# EAGLE library part MCP9804 (library microchip)
TEMP SENSOR
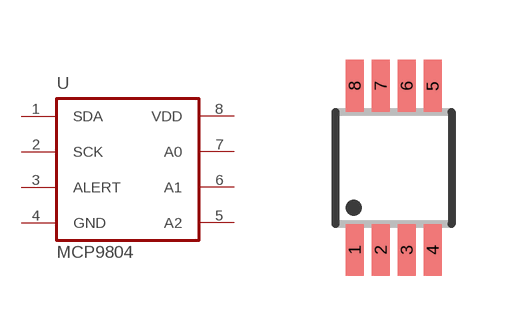
[diagram p132: symbol with the pads of MSOP8; footprint MSOP8]

Designator prefix U

## MCP9804  [MSOP8]
1  SDA
2  SCK  in
3  ALERT  pas
4  GND  pwr
5  A2  in
6  A1  in
7  A0  in
8  VDD  pwr

## Footprint MSOP8 (pad centres in mm)
Micro Small Outline Package
smd 0.45 x 1.3: 1 -0.975,-2.05; 2 -0.325,-2.05; 3 0.325,-2.05; 4 0.975,-2.05; 5 0.975,2.05; 6 0.325,2.05; 7 -0.325,2.05; 8 -0.975,2.05